# Altium footprint library PcbLib1.PcbLib: 14 footprints
Each footprint in its own frame and in the unit in brackets; x right, y up, seen from the top. Pads: shape width x height; smd on the part's side, far side on the other; paste and mask are expansions set on the pad; w line width, h text height; cw(c..) or ccw(c..) is an arc to the next point about the centre after c.
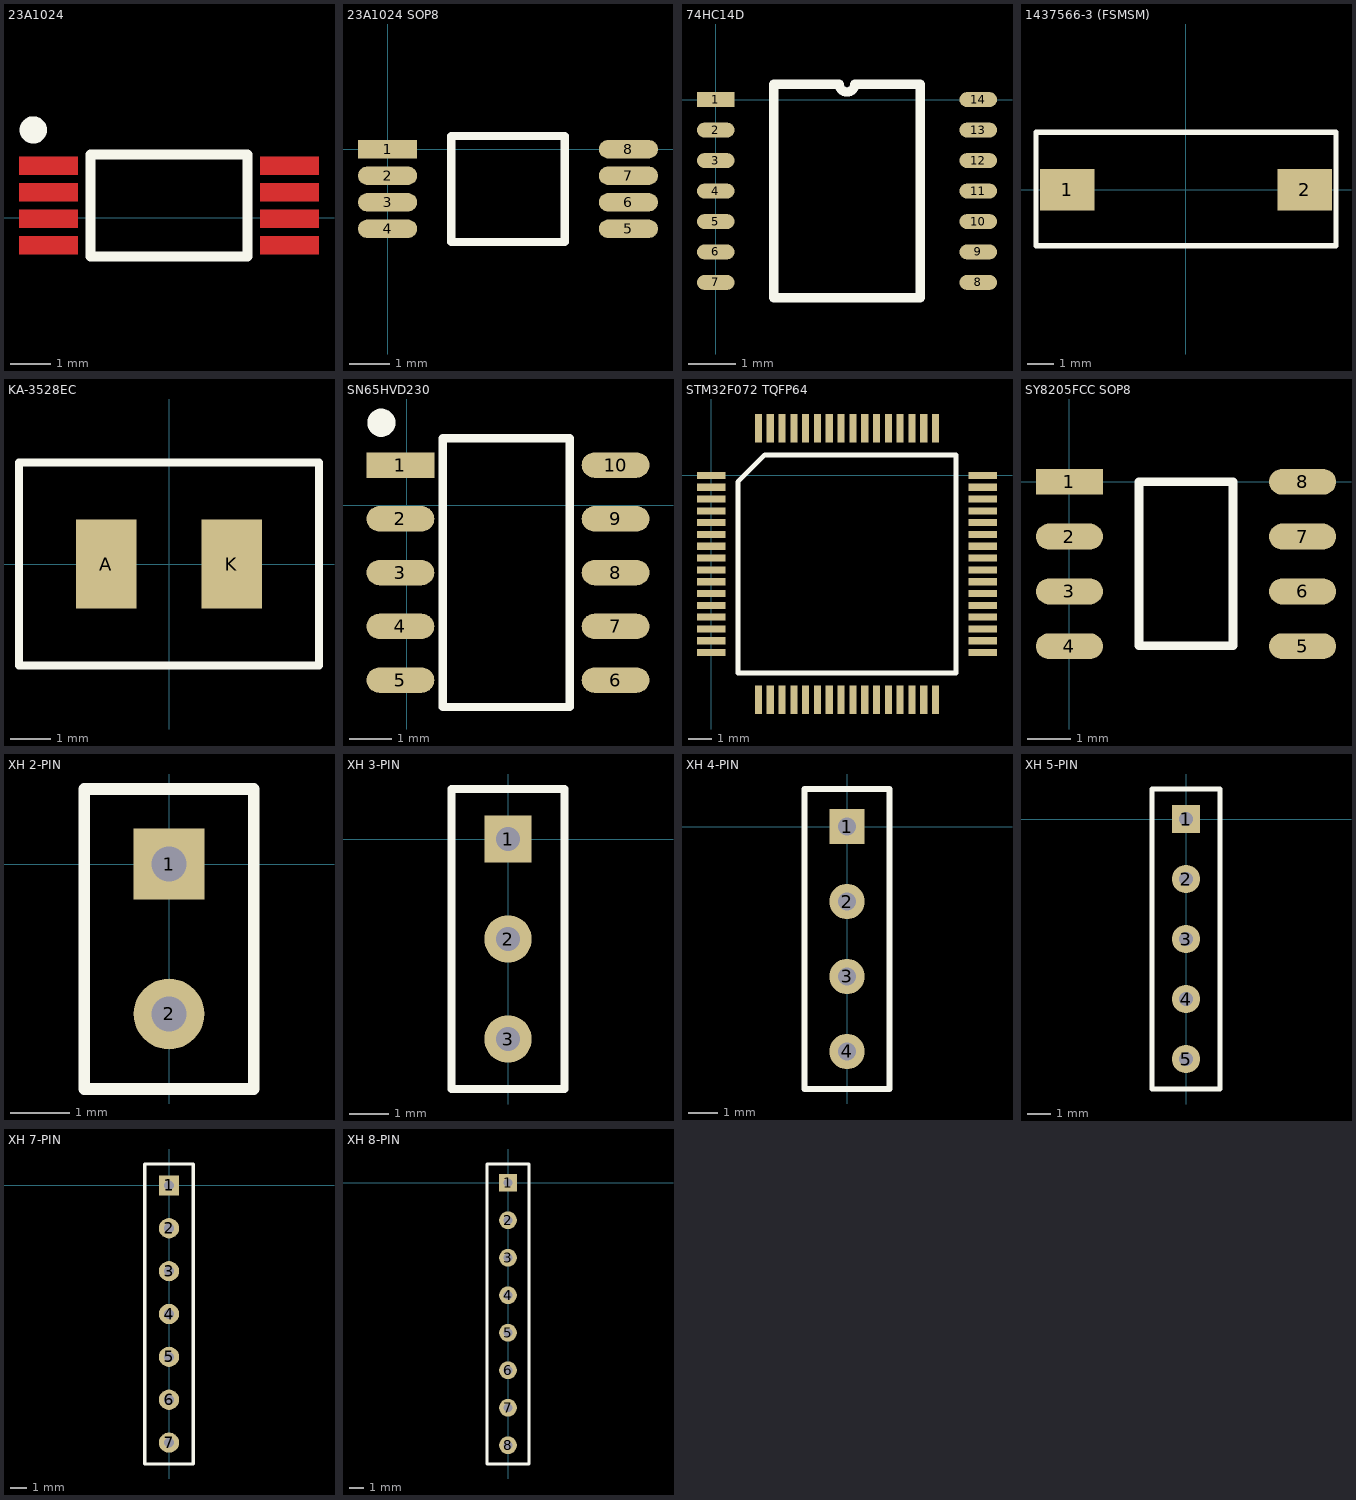
[diagram p0: the footprints below, top view; thin cyan lines are the x and y axes]

## 23A1024 [mm]
Top Layer:
  rectangle: 0.4,-0.9 1.85,-0.45
  rectangle: 0.4,-0.25 1.85,0.2
  rectangle: 0.4,0.4 1.85,0.85
  rectangle: 0.4,1.05 1.85,1.5
  rectangle: 6.3,1.05 7.75,1.5
  rectangle: 6.3,0.4 7.75,0.85
  rectangle: 6.3,-0.25 7.75,0.2
  rectangle: 6.3,-0.9 7.75,-0.45
Top Overlay:
  circle w0.254: c0.75,2.15 r0.206
  rectangle: 0.65,2.05 0.856,2.25
  lines w0.25: 2.15,-0.95 6,-0.95 6,1.55 2.15,1.55 2.15,-0.95

## 23A1024 SOP8 [mm]
pads (8):
  rect 1.45x0.45 smd: 1(0,0)
  oval 1.45x0.45 smd: 2(0,-0.65) 3(0,-1.3) 4(0,-1.95) 5(5.9,-1.95) 6(5.9,-1.3) 7(5.9,-0.65) 8(5.9,0)
Top Overlay:
  lines w0.2: 2.6,0.325 4.34,0.325 4.34,-2.275 1.56,-2.275 1.56,0.325 2.788,0.325

## 74HC14D [mm]
pads (14):
  rect 0.8x0.32 smd: 1(0,0)
  oval 0.8x0.32 smd: 2(0,-0.65) 3(0,-1.3) 4(0,-1.95) 5(0,-2.6) 6(0,-3.25) 7(0,-3.9) 8(5.6,-3.9) 9(5.6,-3.25) 10(5.6,-2.6) 11(5.6,-1.95) 12(5.6,-1.3) 13(5.6,-0.65) 14(5.6,0)
Top Overlay:
  lines w0.2: 1.235,-4.225 4.365,-4.225 4.365,0.325 2.962,0.325 cw(c2.8,0.325) 2.638,0.325 1.235,0.325 1.235,-4.225

## 1437566-3 (FSMSM) [mm]
pads (2):
  rect 2.1x1.6 smd: 1(-4.55,0) 2(4.55,0)
Top Overlay:
  lines w0.2: -5.75,-2.15 5.75,-2.15 5.75,2.2 -5.75,2.2 -5.75,0 -5.75,-2.15

## KA-3528EC [mm]
pads (2):
  rect 1.5x2.2 smd: A(-1.55,0) K(1.55,0)
Top Overlay:
  lines w0.2: -3.7,-2.5 -3.7,0 -3.7,2.5 3.7,2.5 3.7,-2.5 -3.7,-2.5

## SN65HVD230 [mm]
pads (10):
  rect 1.6x0.6 smd: 1(-0.15,0.95)
  oval 1.6x0.6 smd: 2(-0.15,-0.32) 3(-0.15,-1.59) 4(-0.15,-2.86) 5(-0.15,-4.13) 6(4.93,-4.13) 7(4.93,-2.86) 8(4.93,-1.59) 9(4.93,-0.32) 10(4.93,0.95)
Top Overlay:
  circle w0.254: c-0.6,1.95 r0.206
  rectangle: -0.7,1.85 -0.5,2.1
  lines w0.2: 2.708,1.585 3.85,1.585 3.85,-4.765 0.85,-4.765 0.85,1.585 2.8,1.585

## STM32F072 TQFP64 [mm]
pads (64):
  rect 1.2x0.3 smd: 1(0,0) 2(0,-0.5) 3(0,-1) 4(0,-1.5) 5(0,-2) 6(0,-2.5) 7(0,-3) 8(0,-3.5) 9(0,-4) 10(0,-4.5) 11(0,-5) 12(0,-5.5) 13(0,-6) 14(0,-6.5) 15(0,-7) 16(0,-7.5) 33(11.5,-7.5) 34(11.5,-7) 35(11.5,-6.5) 36(11.5,-6) 37(11.5,-5.5) 38(11.5,-5) 39(11.5,-4.5) 40(11.5,-4) 41(11.5,-3.5) 42(11.5,-3) 43(11.5,-2.5) 44(11.5,-2) 45(11.5,-1.5) 46(11.5,-1) 47(11.5,-0.5) 48(11.5,0)
  rect 0.3x1.2 smd: 17(2,-9.5) 18(2.5,-9.5) 19(3,-9.5) 20(3.5,-9.5) 21(4,-9.5) 22(4.5,-9.5) 23(5,-9.5) 24(5.5,-9.5) 25(6,-9.5) 26(6.5,-9.5) 27(7,-9.5) 28(7.5,-9.5) 29(8,-9.5) 30(8.5,-9.5) 31(9,-9.5) 32(9.5,-9.5) 49(9.5,2) 50(9,2) 51(8.5,2) 52(8,2) 53(7.5,2) 54(7,2) 55(6.5,2) 56(6,2) 57(5.5,2) 58(5,2) 59(4.5,2) 60(4,2) 61(3.5,2) 62(3,2) 63(2.5,2) 64(2,2)
Top Overlay:
  lines w0.2: 1.135,-8.365 10.365,-8.365 10.365,0.865 2.27,0.865 1.135,-0.27 1.135,-8.365

## SY8205FCC SOP8 [mm]
pads (8):
  rect 1.55x0.6 smd: 1(0,0)
  oval 1.55x0.6 smd: 2(0,-1.27) 3(0,-2.54) 4(0,-3.81) 5(5.4,-3.81) 6(5.4,-2.54) 7(5.4,-1.27) 8(5.4,0)
Top Overlay:
  lines w0.2: 1.61,-3.8 3.79,-3.8 3.79,0 2.515,0 1.61,0 1.61,-3.8

## XH 2-PIN [mm]
pads (2):
  rect 1.2x1.2 hole 0.6: 1(0,0)
  round 1.2 hole 0.6: 2(0,-2.54)
Top Overlay:
  lines w0.2: -0.635,1.27 1.435,1.27 1.435,-3.81 -1.435,-3.81 -1.435,1.27 0.635,1.27

## XH 3-PIN [mm]
pads (3):
  rect 1.2x1.2 hole 0.6: 1(0,0)
  round 1.2 hole 0.6: 2(0,-2.54) 3(0,-5.08)
Top Overlay:
  lines w0.2: -0.635,1.27 1.435,1.27 1.435,-6.35 -1.435,-6.35 -1.435,1.27 0.635,1.27

## XH 4-PIN [mm]
pads (4):
  rect 1.2x1.2 hole 0.6: 1(0,0)
  round 1.2 hole 0.6: 2(0,-2.54) 3(0,-5.08) 4(0,-7.62)
Top Overlay:
  lines w0.2: -0.635,1.27 1.435,1.27 1.435,-8.89 -1.435,-8.89 -1.435,1.27 0.635,1.27

## XH 5-PIN [mm]
pads (5):
  rect 1.2x1.2 hole 0.6: 1(0,0)
  round 1.2 hole 0.6: 2(0,-2.54) 3(0,-5.08) 4(0,-7.62) 5(0,-10.16)
Top Overlay:
  lines w0.2: -0.635,1.27 1.435,1.27 1.435,-11.43 -1.435,-11.43 -1.435,1.27 0.635,1.27

## XH 7-PIN [mm]
pads (7):
  rect 1.2x1.2 hole 0.6: 1(0,0)
  round 1.2 hole 0.6: 2(0,-2.54) 3(0,-5.08) 4(0,-7.62) 5(0,-10.16) 6(0,-12.7) 7(0,-15.24)
Top Overlay:
  lines w0.2: -0.635,1.27 1.435,1.27 1.435,-16.51 -1.435,-16.51 -1.435,1.27 0.635,1.27

## XH 8-PIN [mm]
pads (8):
  rect 1.2x1.2 hole 0.6: 1(0,0)
  round 1.2 hole 0.6: 2(0,-2.54) 3(0,-5.08) 4(0,-7.62) 5(0,-10.16) 6(0,-12.7) 7(0,-15.24) 8(0,-17.78)
Top Overlay:
  lines w0.2: -0.635,1.27 1.435,1.27 1.435,-19.05 -1.435,-19.05 -1.435,1.27 0.635,1.27